# EAGLE library part LP2989-3V3 (library OpenPMSM)
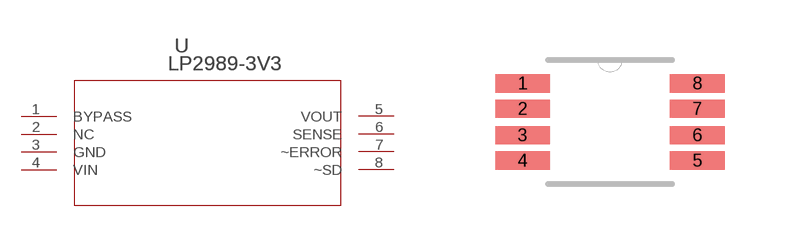
[diagram p5: symbol with the pads of MUA08A; footprint MUA08A]

Designator prefix -

## LP2989-3V3  [MUA08A]
1  BYPASS  pas
2  NC  pas
3  GND  pas
4  VIN  in
5  VOUT  out
6  SENSE  pas
7  ~ERROR  pas
8  ~SD  pas

## Footprint MUA08A (pad centres in mm)
smd 1.372 x 0.457: 1 -2.184,0.965; 2 -2.184,0.33; 3 -2.184,-0.33; 4 -2.184,-0.965; 5 2.184,-0.965; 6 2.184,-0.33; 7 2.184,0.33; 8 2.184,0.965